# Altium schematic symbol library Stock_resistors.SchLib: 17 symbols
Pins are listed as number, name and electrical type; pins without a type are passive.

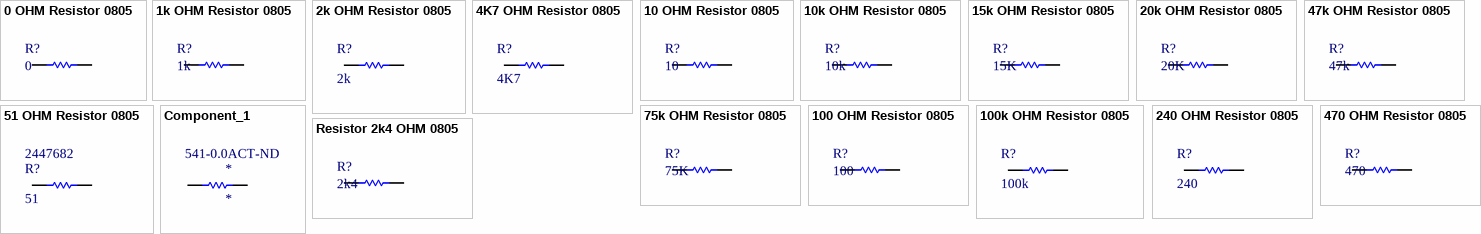
[diagram p0: symbols 0 OHM Resistor 0805 to Resistor 2k4 OHM 0805]

## 0 OHM Resistor 0805
designator R?, comment 0
0 ohm resistor 0805 STOCKED; Supplier 1: RSComponents; Supplier Part Number 1: 717-1578
footprint RSPRO 0805_Chip2PinSM127P600-8N (0805)
footprint Altium-RESC0805(2012)_L (Altium 0805 type L)
footprint Altium-RESC0805(2012)_M (Altium 0805 type M)
footprint Altium-RESC0805(2012)_N (Altiom 0805 type N)
pins: 1, 2

## 1k OHM Resistor 0805
designator R?, comment 1k
Resistor 0805 Multicomp STOCKED; Supplier Part Number 1: 2447587; Supplier 1: Farnell
footprint Multicomp 0805 Chip2PinSM127P600-8N (mcwr08 series 0805 resistor)
footprint Altium-RESC0805(2012)_L (Altium 0805 type L)
footprint Altium-RESC0805(2012)_M (Altium 0805 type M)
footprint Altium-RESC0805(2012)_N (Altiom 0805 type N)
pins: 1, 2

## 2k OHM Resistor 0805
designator R?, comment 2k
MCWR08X2001FTL -  SMD Chip Resistor, 0805 [2012 Metric], 2 kohm, MCWR Series, 150 V, Thick Film, 125 mW; Supplier 1: Farnell; Supplier 2: Farnell; Supplier 3: Farnell; Supplier 4: Newark; Supplier 5: Newark; Supplier 6: Element14; Supplier 7: Element14; Supplier 8: Element14; Supplier Part Number 1: 2446939; Supplier Part Number 2: 2447622; Supplier Part Number 3: 2447622RL; Supplier Part Number 4: 85X6390; Supplier Part Number 5: 94X1904; Supplier Part Number 6: 2446939; Supplier Part Number 7: 2447622; Supplier Part Number 8: 2447622RL
footprint Altium-RESC0805(2012)_L (0805 altium resistor)
footprint Altium-RESC0805(2012)_M (0805_M size)
footprint Altium-RESC0805(2012)_N (Altium_RESC0805(2012)_N)
pins: 1, 2

## 4K7 OHM Resistor 0805
designator R?, comment 4K7
4K7 OHM Resistor 0805 Multicomp MCWF_STOCKED; Supplier 1: RSComponents; Supplier Part Number 1: 504-7357; Supplier 2: Farnell; Supplier Part Number 2: 2078959
footprint Multicomp 0805 Chip2PinSM127P600-8N (mcwr08 series 0805 resistor)
footprint Altium-RESC0805(2012)_L (Altium 0805 type L)
footprint Altium-RESC0805(2012)_M (Altium 0805 type M)
footprint Altium-RESC0805(2012)_N (Altiom 0805 type N)
pins: 1, 2

## 10 OHM Resistor 0805
designator R?, comment 10
Resistor 0805 YAGEO STOCKED; Supplier 1: Farnell; Supplier Part Number 1: 2421943
footprint Resistor 0805 YAGEO CAPC2012X06N (Chip Capacitor, 2-Leads, Body 2.00x1.25mm, IPC Medium Density)
footprint Altium-RESC0805(2012)_L (Altium 0805 type L)
footprint Altium-RESC0805(2012)_M (Altium 0805 type M)
footprint Altium-RESC0805(2012)_N (Altiom 0805 type N)
pins: 1, 2

## 10k OHM Resistor 0805
designator R?, comment 10k
Resistor 0805 Multicomp MCWR08 Series STOCKED; Supplier 1: Farnell; Supplier Part Number 1: 2447553
footprint Multicomp 0805 Chip2PinSM127P600-8N (mcwr08 series 0805 resistor)
footprint Altium-RESC0805(2012)_M (Altium 0805 type M)
footprint Altium-RESC0805(2012)_L (Altium 0805 type L)
footprint Altium-RESC0805(2012)_N (Altiom 0805 type N)
pins: 1, 2

## 15k OHM Resistor 0805
designator R?, comment 15K
Resistor 0805 Multicomp MCPW STOCKED
footprint Multicomp 0805 Chip2PinSM127P600-8N (mcwr08 series 0805 resistor)
footprint Altium-RESC0805(2012)_L (Altium 0805 type L)
footprint Altium-RESC0805(2012)_M (Altium 0805 type M)
footprint Altium-RESC0805(2012)_N (Altiom 0805 type N)
pins: 1, 2

## 20k OHM Resistor 0805
designator R?, comment 20K
20k 0805 Multicomp MCWR series; Supplier 1: Farnell; Supplier Part Number 1: 2446920
footprint Multicomp 0805 Chip2PinSM127P600-8N (mcwr08 series 0805 resistor)
footprint Altium-RESC0805(2012)_L (Altium 0805 type L)
footprint Altium-RESC0805(2012)_M (Altium 0805 type M)
footprint Altium-RESC0805(2012)_N (Altiom 0805 type N)
pins: 1, 2

## 47k OHM Resistor 0805
designator R?, comment 47k
Resistor 0805 Yageo STOCKED; Supplier 1: Farnell; Supplier Part Number 1: 9237836
footprint Resistor 0805 YAGEO CAPC2012X06N (Chip Capacitor, 2-Leads, Body 2.00x1.25mm, IPC Medium Density)
footprint Altium-RESC0805(2012)_L (Altium 0805 type L)
footprint Altium-RESC0805(2012)_M (Altium 0805 type M)
footprint Altium-RESC0805(2012)_N (Altiom 0805 type N)
pins: 1, 2

## 51 OHM Resistor 0805
designator R?, comment 51  Supplier Part Number 2: 2447682
Resistor 51 ohm 0805 Multicomp MCWR series STOCKED; Supplier 1: Farnell; Supplier Part Number 1: 2446999; Supplier 2: Farnell
footprint Multicomp 0805 Chip2PinSM127P600-8N (mcwr08 series 0805 resistor)
footprint Altium-RESC0805(2012)_L (Altium 0805 type L)
footprint Altium-RESC0805(2012)_M (Altium 0805 type M)
footprint Altium-RESC0805(2012)_N (Altiom 0805 type N)
pins: 1, 2

## 75k OHM Resistor 0805
designator R?, comment 75K
Resistor 0805 Multicomp MCPW STOCKED
footprint Multicomp 0805 Chip2PinSM127P600-8N (mcwr08 series 0805 resistor)
footprint Altium-RESC0805(2012)_L (Altium 0805 type L)
footprint Altium-RESC0805(2012)_M (Altium 0805 type M)
footprint Altium-RESC0805(2012)_N (Altiom 0805 type N)
pins: 1, 2

## 100 OHM Resistor 0805
designator R?, comment 100
Resistor 0805 YAGEO RC08 Series STOCKED; Supplier 1: Farnell; Supplier Part Number 1: 9237364
footprint Resistor 0805 YAGEO CAPC2012X06N (Chip Capacitor, 2-Leads, Body 2.00x1.25mm, IPC Medium Density)
footprint Altium-RESC0805(2012)_L (Altium 0805 type L)
footprint Altium-RESC0805(2012)_M (Altium 0805 type M)
footprint Altium-RESC0805(2012)_N (Altiom 0805 type N)
pins: 1, 2

## 100k OHM Resistor 0805
designator R?, comment 100k
100k 0805 MCWR series; Supplier 1: Farnell; Supplier Part Number 1: 2446868
footprint Multicomp 0805 Chip2PinSM127P600-8N (mcwr08 series 0805 resistor)
footprint Altium-RESC0805(2012)_L (Altium 0805 type L)
footprint Altium-RESC0805(2012)_M (Altium 0805 type M)
footprint Altium-RESC0805(2012)_N (Altiom 0805 type N)
pins: 1, 2

## 240 OHM Resistor 0805
designator R?, comment 240
Resistor 240 ohm 0805 5% .125w WR08x241 JTL; Supplier 1: Farnell; Supplier 2: Farnell; Supplier Part Number 1: 2670988; Supplier Part Number 2: 2669713
footprint Altium-RESC0805(2012)_L (Altium 0805 type L)
footprint Altium-RESC0805(2012)_M (Altium 0805 type M)
footprint Altium-RESC0805(2012)_N (Altiom 0805 type N)
pins: 1, 2

## 470 OHM Resistor 0805
designator R?, comment 470
Resistor 0805 YAGEO RC Series STOCKED; Supplier 1: Farnell; Supplier Part Number 1: 9233962
footprint Resistor 0805 YAGEO CAPC2012X06N (Chip Capacitor, 2-Leads, Body 2.00x1.25mm, IPC Medium Density)
footprint Altium-RESC0805(2012)_L (Altium 0805 type L)
footprint Altium-RESC0805(2012)_M (Altium 0805 type M)
footprint Altium-RESC0805(2012)_N (Altiom 0805 type N)
pins: 1, 2

## Component_1
designator *  Supplier Part Number 1: 541-0.0ACT-ND
Supplier 1: Digi-Key
footprint component1 (Vishay CRCW0805 series resistors)
pins: 1, 2

## Resistor 2k4 OHM 0805
designator R?, comment 2k4
Resistor 0805 Vishay crcw Series STOCKED; Supplier 1: Farnell; Supplier Part Number 1: 2138947
footprint Vishay 0805_CRCW_Chip2PinSM127P600-8N (Vishay CRCW0805 series resistors)
footprint Altium-RESC0805(2012)_L (Altium 0805 type L)
footprint Altium-RESC0805(2012)_M (Altium 0805 type M)
footprint Altium-RESC0805(2012)_N (Altiom 0805 type N)
pins: 1, 2